# Altium footprint library THU_srh.PcbLib: 1 footprints
Each footprint in its own frame and in the unit in brackets; x right, y up, seen from the top. Pads: shape width x height; smd on the part's side, far side on the other; paste and mask are expansions set on the pad; w line width, h text height; cw(c..) or ccw(c..) is an arc to the next point about the centre after c.
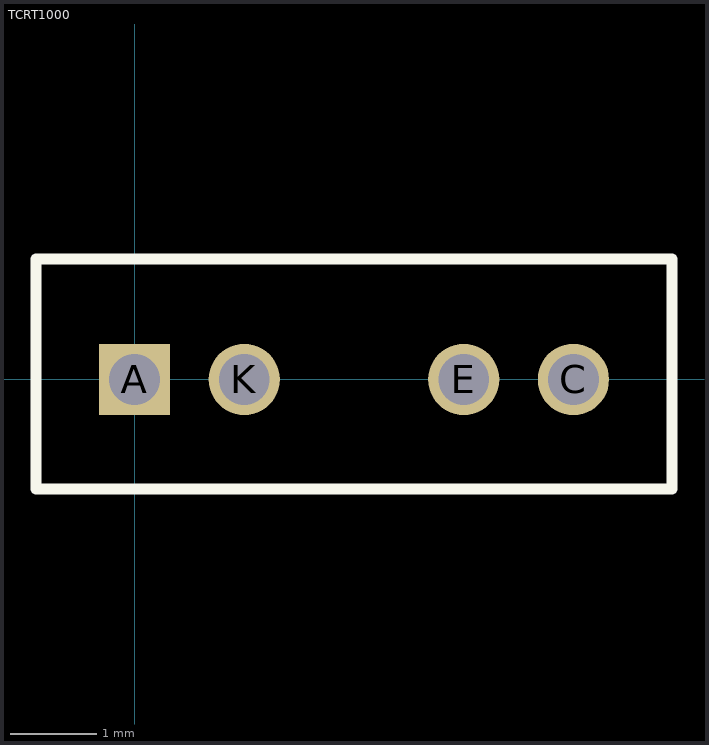
[diagram p0: the footprint, top view; thin cyan lines are the x and y axes]

## TCRT1000 [mil] "Reflective Optical Sensor with Transistor Output"
height 275.59
pads (4):
  rect 32.44x32.44 hole 23.19: A(0,0)
  round 32.44 hole 23.19: C(200,0) E(150,0) K(50,0)
Top Overlay:
  lines w5: -45,-50 -45,55 245,55 245,-50 -45,-50
3D body: height 279.53, standoff 0, extent -45,-50 245,55